# Altium schematic symbol library LM2936-5.0.SchLib: 1 symbol
Pins are listed as number, name and electrical type; pins without a type are passive.

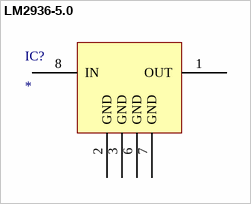
[diagram p0: symbol LM2936-5.0]

## LM2936-5.0
designator IC?
footprint 8-SOIC (pitch 1.27 mm)
pins: 1 OUT, 2 GND, 3 GND, 6 GND, 7 GND, 8 IN